# EAGLE library part AK5394A (library NewSDR)
ASAHI KASEI Super High Performance 192 kHz 24-bit Sigma Delta ADC SOP28 Package
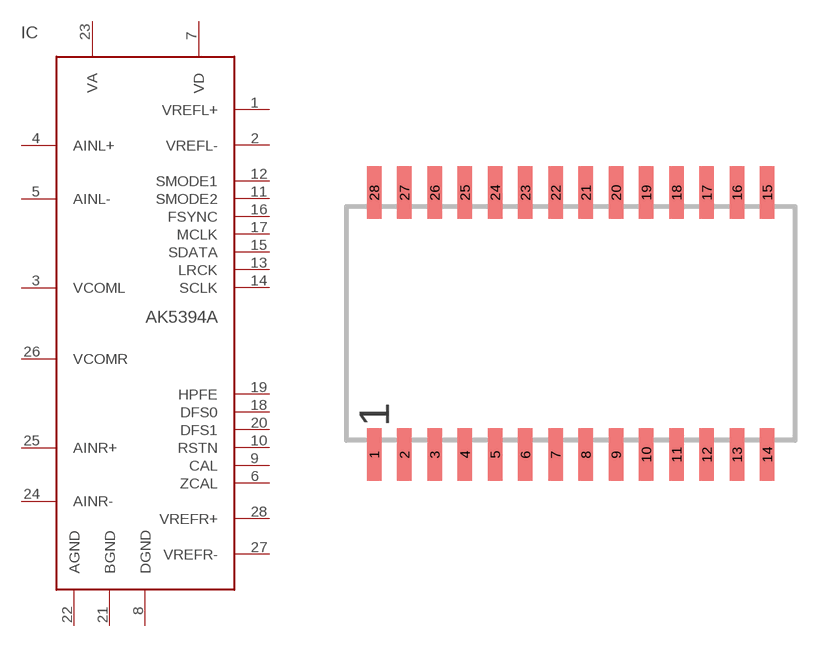
[diagram p15: symbol with the pads of SOP28; footprint SOP28]

Designator prefix IC

## AK5394A  [SOP28]
1  VREFL+  pwr
2  VREFL-  pwr
3  VCOML  pwr
4  AINL+  in
5  AINL-  in
6  ZCAL  in
7  VD  pwr
8  DGND  pwr
9  CAL  out
10  RSTN  in
11  SMODE2  in
12  SMODE1  in
13  LRCK
14  SCLK
15  SDATA  out
16  FSYNC
17  MCLK  in
18  DFS0  in
19  HPFE  in
20  DFS1  in
21  BGND  pwr
22  AGND  pwr
23  VA  pwr
24  AINR-  in
25  AINR+  in
26  VCOMR  pwr
27  VREFR-  pwr
28  VREFR+  pwr

## Footprint SOP28 (pad centres in mm)
SMALL OUTLINE PACKAGE
smd 0.6 x 2.2: 1 -8.255,-5.5; 2 -6.985,-5.5; 3 -5.715,-5.5; 4 -4.445,-5.5; 5 -3.175,-5.5; 6 -1.905,-5.5; 7 -0.635,-5.5; 8 0.635,-5.5; 9 1.905,-5.5; 10 3.175,-5.5; 11 4.445,-5.5; 12 5.715,-5.5; 13 6.985,-5.5; 14 8.255,-5.5; 15 8.255,5.5; 16 6.985,5.5; 17 5.715,5.5; 18 4.445,5.5; 19 3.175,5.5; 20 1.905,5.5; 21 0.635,5.5; 22 -0.635,5.5; 23 -1.905,5.5; 24 -3.175,5.5; 25 -4.445,5.5; 26 -5.715,5.5; 27 -6.985,5.5; 28 -8.255,5.5